# Altium footprint library smartcar_lib.PcbLib: 126 footprints (part 6 of 8)
Each footprint in its own frame and in the unit in brackets; x right, y up, seen from the top. Pads: shape width x height; smd on the part's side, far side on the other; paste and mask are expansions set on the pad; w line width, h text height; cw(c..) or ccw(c..) is an arc to the next point about the centre after c.
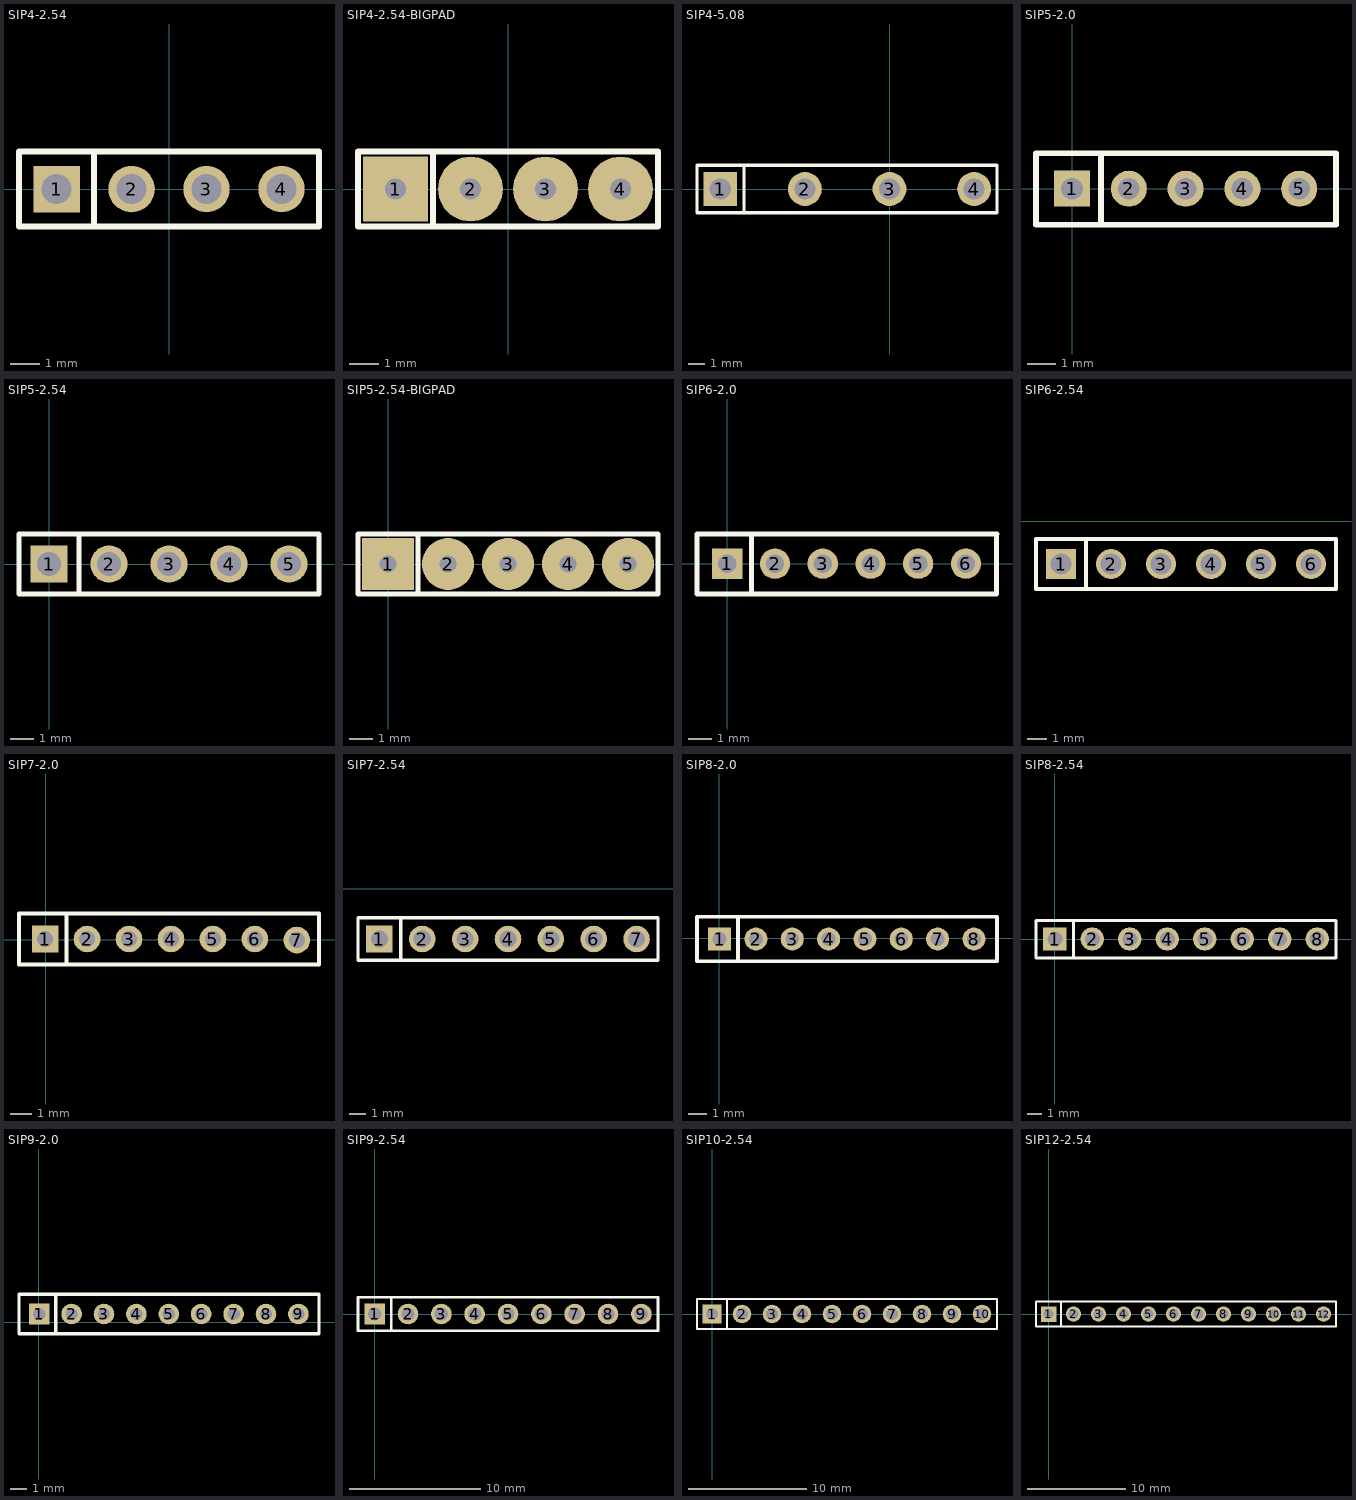
[diagram p5: the footprints below, top view; thin cyan lines are the x and y axes]

## SIP4-2.54 [mil]
pads (4):
  rect 62x62 hole 40: 1(-150,0)
  round 62 hole 40: 2(-50,0) 3(50,0) 4(150,0)
Top Overlay:
  lines w8: -100,-50 -100,50 ; -200,-50 200,-50 200,50 -200,50 -200,-50

## SIP4-2.54-BIGPAD [mm]
pads (4):
  rect 2.2x2.2 hole 0.7: 1(-3.81,0)
  round 2.2 hole 0.7: 2(-1.27,0) 3(1.27,0) 4(3.81,0)
Top Overlay:
  lines w0.203: -2.54,-1.27 -2.54,1.27 ; -5.08,-1.27 5.08,-1.27 5.08,1.27 -5.08,1.27 -5.08,-1.27

## SIP4-5.08 [mil]
pads (4):
  rect 80x80 hole 50: 1(-400,0)
  round 80 hole 50: 2(-200,0) 3(0,0) 4(200,0)
Top Overlay:
  lines w8: -455,-56 254,-56 254,56 -455,56 ; -455,-55 -455,55 ; -344,-56 -344,56

## SIP5-2.0 [mil]
pads (5):
  rect 50x50 hole 30: 1(0,0)
  round 50 hole 30: 2(78.74,0) 3(157.48,0) 4(236.22,0) 5(314.96,0)
Top Overlay:
  lines w8: 40,-50 40,47 ; -50,-50 -50,49 366,49 366,-50 -50,-50

## SIP5-2.54 [mil]
pads (5):
  rect 62x62 hole 40: 1(0,0)
  round 62 hole 40: 2(100,0) 3(200,0) 4(300,0) 5(400,0)
Top Overlay:
  lines w8: 50,-50 50,50 ; -50,-50 450,-50 450,50 -50,50 -50,-50

## SIP5-2.54-BIGPAD [mm]
pads (5):
  rect 2.2x2.2 hole 0.7: 1(0,0)
  round 2.2 hole 0.7: 2(2.54,0) 3(5.08,0) 4(7.62,0) 5(10.16,0)
Top Overlay:
  lines w0.203: 1.27,-1.27 1.27,1.27 ; -1.27,-1.27 -1.27,1.27 11.43,1.27 11.43,-1.27 -1.27,-1.27

## SIP6-2.0 [mil]
pads (6):
  rect 50x50 hole 30: 1(0,0)
  round 50 hole 30: 2(78.74,0) 3(157.48,0) 4(236.22,0) 5(314.96,0) 6(393.7,0)
Top Overlay:
  lines w8: 40,-49 40,49 ; -50,-50 444,-50 444,48 445,49 -50,49 -50,-50

## SIP6-2.54 [mil]
pads (6):
  rect 60x60 hole 42: 1(89.75,-85.93)
  round 60 hole 42: 2(189.75,-85.93) 3(289.75,-85.93) 4(389.75,-85.93) 5(489.75,-85.93) 6(589.75,-85.93)
Top Overlay:
  lines w8: 139.75,-135.93 139.75,-35.93 ; 39.74,-135.93 39.74,-35.93 639.75,-35.93 639.75,-135.93 39.74,-135.93

## SIP7-2.0 [mil]
pads (7):
  rect 50x50 hole 30: 1(-1,1)
  round 50 hole 30: 2(77.74,1) 3(156.48,1) 4(235.22,1) 5(313.96,1) 6(392.7,1) 7(471.44,-1)
Top Overlay:
  lines w8: 39,-47 39,49 ; 513,48 513,-47 -50,-47 -50,49 513,49

## SIP7-2.54 [mil]
pads (7):
  rect 62x62 hole 40: 1(120,-117)
  round 62 hole 40: 2(220,-117) 3(320,-117) 4(420,-117) 5(520,-117) 6(620,-117) 7(720,-117)
Top Overlay:
  lines w8: 170,-167 170,-67 ; 70,-167 70,-67 770,-67 770,-167 70,-167

## SIP8-2.0 [mil]
pads (8):
  rect 50x50 hole 30: 1(1,-2)
  round 50 hole 30: 2(79.74,-2) 3(158.48,-2) 4(237.22,-2) 5(315.96,-2) 6(394.7,-2) 7(473.44,-2) 8(552.18,-2)
Top Overlay:
  lines w8: 41,-50 41,46 ; 602.18,45 602.18,-50 -48,-50 -48,46 602.18,46

## SIP8-2.54 [mil]
pads (8):
  rect 62x62 hole 40: 1(0,0)
  round 62 hole 40: 2(100,0) 3(200,0) 4(300,0) 5(400,0) 6(500,0) 7(600,0) 8(700,0)
Top Overlay:
  lines w8: 50,-50 50,50 ; -50,-50 750,-50 750,50 -50,50 -50,-50

## SIP9-2.0 [mil]
pads (9):
  rect 50x50 hole 30: 1(1,20)
  round 50 hole 30: 2(79.74,20) 3(158.48,20) 4(237.22,20) 5(315.96,20) 6(394.7,20) 7(473.44,20) 8(552.18,20) 9(630.92,20)
Top Overlay:
  lines w8: 41,-28 41,68 ; 680.92,67 680.92,-28 -48,-28 -48,68 680.95,68

## SIP9-2.54 [mil]
pads (9):
  rect 62x62 hole 40: 1(0,0)
  round 62 hole 40: 2(100,0) 3(200,0) 4(300,0) 5(400,0) 6(500,0) 7(600,0) 8(700,0) 9(800,0)
Top Overlay:
  lines w8: 50,-50 50,50 ; -50,-50 -50,50 850,50 850,-50 -50,-50

## SIP10-2.54 [mil]
pads (10):
  rect 62x62 hole 40: 1(0,0)
  round 62 hole 40: 2(100,0) 3(200,0) 4(300,0) 5(400,0) 6(500,0) 7(600,0) 8(700,0) 9(800,0) 10(900,0)
Top Overlay:
  lines w8: 50,-50 50,50 ; -50,-50 950,-50 950,50 -50,50 -50,-50

## SIP12-2.54 [mil]
pads (12):
  rect 62x62 hole 40: 1(0,0)
  round 62 hole 40: 2(100,0) 3(200,0) 4(300,0) 5(400,0) 6(500,0) 7(600,0) 8(700,0) 9(800,0) 10(900,0) 11(1000,0) 12(1100,0)
Top Overlay:
  lines w8: 50,-50 50,50 ; -50,-50 -50,50 1150,50 1150,-50 -50,-50